# Altium footprint library SOD-80.PcbLib: 1 footprints
Each footprint in its own frame and in the unit in brackets; x right, y up, seen from the top. Pads: shape width x height; smd on the part's side, far side on the other; paste and mask are expansions set on the pad; w line width, h text height; cw(c..) or ccw(c..) is an arc to the next point about the centre after c.
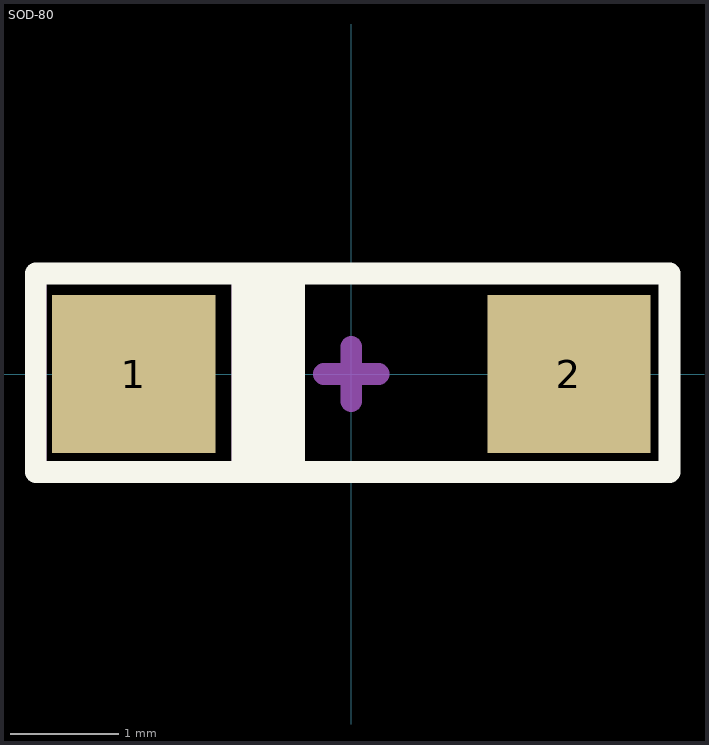
[diagram p0: the footprint, top view; thin cyan lines are the x and y axes]

## SOD-80 [mm]
height 0.55
pads (2):
  rect 1.5x1.45 smd: 1(-2,0) 2(2,0)
Top Overlay:
  rectangle: -1.1,-0.85 -0.425,0.875
  lines w0.2: -2.9,-0.9 -2.9,0.925 2.925,0.925 2.925,-0.9 -2.9,-0.9
Top Assembly:
  rectangle: -1.1,-0.9 -0.425,0.875
  lines w0.1: -2.85,-0.925 2.95,-0.925 2.95,0.9 -2.85,0.9 -2.85,-0.925
  lines w0.2: -0.25,0 0.25,0 ; 0,-0.25 0,0.25
  text "'.Designator'" at 0,0 h0.7
3D body "User Library-MiniMelf-2.STEP": height 1.6, standoff 0, extent -1.88,-0.794 1.82,0.794